# Altium schematic symbol library LED_Yollew.SchLib: 1 symbol
Pins are listed as number, name and electrical type; pins without a type are passive.

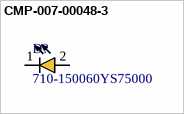
[diagram p0: symbol CMP-007-00048-3]

## CMP-007-00048-3
designator D?, comment 710-150060YS75000
SMD LED Yellow, 0603
footprint LEDC3216X110N
footprint DIOC2408X06N (Chip Diode, 2-Leads, Body 2,40x0,80mm, IPC Medium Density)
pins: 1 C, 2 A